# Altium footprint library STM32G441KBT3.PcbLib: 3 footprints
Each footprint in its own frame and in the unit in brackets; x right, y up, seen from the top. Pads: shape width x height; smd on the part's side, far side on the other; paste and mask are expansions set on the pad; w line width, h text height; cw(c..) or ccw(c..) is an arc to the next point about the centre after c.
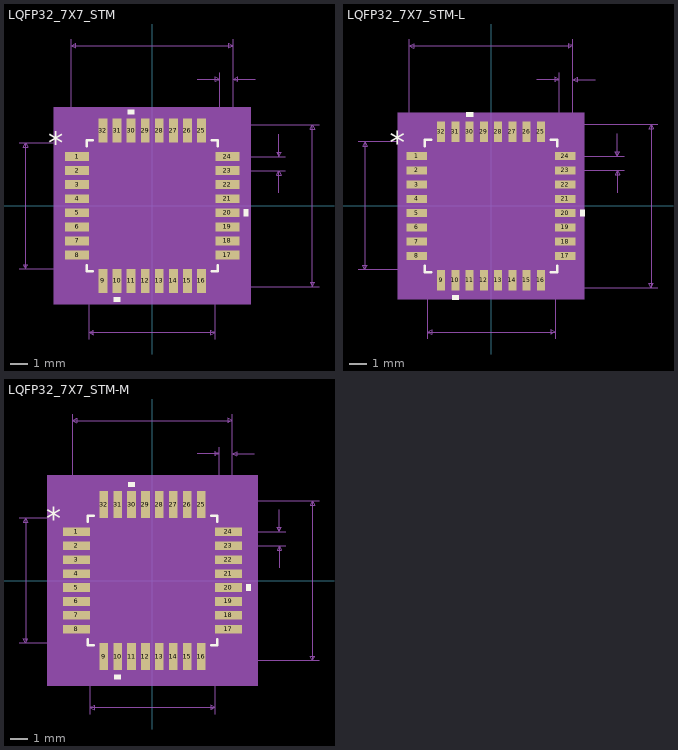
[diagram p0: the footprints below, top view; thin cyan lines are the x and y axes]

## LQFP32_7X7_STM [mm]
pads (32):
  rect 1.359x0.501 smd paste+0 mask+0: 1(-4.274,2.8) 2(-4.274,2) 3(-4.274,1.2) 4(-4.274,0.4) 5(-4.274,-0.4) 6(-4.274,-1.2) 7(-4.274,-2) 8(-4.274,-2.8) 17(4.274,-2.8) 18(4.274,-2) 19(4.274,-1.2) 20(4.274,-0.4) 21(4.274,0.4) 22(4.274,1.2) 23(4.274,2) 24(4.274,2.8)
  rect 0.501x1.359 smd paste+0 mask+0: 9(-2.8,-4.274) 10(-2,-4.274) 11(-1.2,-4.274) 12(-0.4,-4.274) 13(0.4,-4.274) 14(1.2,-4.274) 15(2,-4.274) 16(2.8,-4.274) 25(2.8,4.274) 26(2,4.274) 27(1.2,4.274) 28(0.4,4.274) 29(-0.4,4.274) 30(-1.2,4.274) 31(-2,4.274) 32(-2.8,4.274)
Top Overlay:
  region: -1.81,-5.207 -2.191,-5.207 -2.191,-5.461 -1.81,-5.461
  region: 5.207,-0.209 5.461,-0.209 5.461,-0.59 5.207,-0.59
  region: -1.01,5.207 -1.391,5.207 -1.391,5.461 -1.01,5.461
  lines w0.152: -3.721,-3.383 -3.721,-3.721 -3.383,-3.721 ; -3.721,3.383 -3.721,3.721 -3.383,3.721 ; 3.383,-3.721 3.721,-3.721 3.721,-3.383 ; 3.383,3.721 3.721,3.721 3.721,3.383
  text "*" at -5.905,2.946 h1.27
Mechanical 5:
  region: 5.588,-5.588 -5.588,-5.588 -5.588,5.588 5.588,5.588
Mechanical 7:
  lines w0.025: -7.576,-3.594 -2.8,-3.594 ; -7.576,3.594 -2.8,3.594 ; -4.597,2.8 -4.597,9.481 ; -3.594,-7.576 -3.594,-2.8 ; 2.565,7.195 3.835,7.195 ; 2.8,-4.597 9.481,-4.597 ; 2.8,4.597 9.481,4.597 ; 3.594,-7.576 3.594,-2.8 ; 3.835,2.8 3.835,7.576 ; 4.274,2 7.576,2 ; 4.274,2.8 7.576,2.8 ; 4.597,7.576 4.597,2.8 4.597,9.481 ; 5.867,7.195 4.597,7.195 ; 7.195,0.73 7.195,2 ; 7.195,4.07 7.195,2.8 ; -7.195,-3.594 -7.195,3.594 ; -7.195,-3.594 -7.322,-3.34 -7.068,-3.34 -7.195,-3.594 ; -7.195,3.594 -7.322,3.34 -7.068,3.34 -7.195,3.594 ; -4.597,9.1 4.597,9.1 ; -4.597,9.1 -4.343,9.227 -4.343,8.973 -4.597,9.1 ; -3.594,-7.195 3.594,-7.195 ; -3.594,-7.195 -3.34,-7.068 -3.34,-7.322 -3.594,-7.195 ; 3.594,-7.195 3.34,-7.068 3.34,-7.322 3.594,-7.195 ; 3.835,7.195 3.581,7.322 3.581,7.068 3.835,7.195 ; 4.597,7.195 4.851,7.322 4.851,7.068 4.597,7.195 ; 4.597,9.1 4.343,9.227 4.343,8.973 4.597,9.1 ; 7.195,2 7.068,1.746 7.322,1.746 7.195,2 ; 7.195,2.8 7.068,3.054 7.322,3.054 7.195,2.8 ; 9.1,-4.597 9.1,4.597 ; 9.1,-4.597 8.973,-4.343 9.227,-4.343 9.1,-4.597 ; 9.1,4.597 8.973,4.343 9.227,4.343 9.1,4.597
  text "Default Horiz Padstyle: RX19p72Y53p5D0T" at -12.383,-11.005 h1.27
  text "Default Vert Padstyle: RX19p72Y53p5D0T" at -12.065,-12.529 h1.27
  text "Alt 1 Padstyle: OX60Y90D30P" at -8.572,-17.101 h1.27
  text "Alt 2 Padstyle: OX90Y60D30P" at -8.572,-18.625 h1.27
  text "0.031in/0.8mm" at 7.703,2.083 h0.64
  text "0.03in/0.762mm" at 1.994,7.703 h0.64
  text "0.362in/9.195mm" at -2.381,9.608 h0.64
  text "0.283in/7.188mm" at -2.381,-8.338 h0.64
  text "0.283in/7.188mm" at -12.465,-0.318 h0.64
  text "0.362in/9.195mm" at 9.608,-0.318 h0.64
Mechanical 13:
  lines w0.025: -3.594,2.324 -2.324,3.594 ; -4.597,-3.025 -4.597,-2.575 -3.594,-2.575 -3.594,-3.025 -4.597,-3.025 ; -4.597,-2.225 -4.597,-1.775 -3.594,-1.775 -3.594,-2.225 -4.597,-2.225 ; -4.597,-1.425 -4.597,-0.975 -3.594,-0.975 -3.594,-1.425 -4.597,-1.425 ; -4.597,-0.625 -4.597,-0.175 -3.594,-0.175 -3.594,-0.625 -4.597,-0.625 ; -4.597,0.175 -4.597,0.625 -3.594,0.625 -3.594,0.175 -4.597,0.175 ; -4.597,0.975 -4.597,1.425 -3.594,1.425 -3.594,0.975 -4.597,0.975 ; -4.597,1.775 -4.597,2.225 -3.594,2.225 -3.594,1.775 -4.597,1.775 ; -4.597,2.575 -4.597,3.025 -3.594,3.025 -3.594,2.575 -4.597,2.575 ; -3.594,-3.594 3.594,-3.594 3.594,3.594 -3.594,3.594 -3.594,-3.594 ; -3.025,-4.597 -3.025,-3.594 -2.575,-3.594 -2.575,-4.597 -3.025,-4.597 ; -3.025,3.594 -2.575,3.594 -2.575,4.597 -3.025,4.597 -3.025,3.594 ; -2.225,-4.597 -2.225,-3.594 -1.775,-3.594 -1.775,-4.597 -2.225,-4.597 ; -2.225,3.594 -1.775,3.594 -1.775,4.597 -2.225,4.597 -2.225,3.594 ; -1.425,-4.597 -1.425,-3.594 -0.975,-3.594 -0.975,-4.597 -1.425,-4.597 ; -1.425,3.594 -0.975,3.594 -0.975,4.597 -1.425,4.597 -1.425,3.594 ; -0.625,-4.597 -0.625,-3.594 -0.175,-3.594 -0.175,-4.597 -0.625,-4.597 ; -0.625,3.594 -0.175,3.594 -0.175,4.597 -0.625,4.597 -0.625,3.594 ; 0.175,-4.597 0.175,-3.594 0.625,-3.594 0.625,-4.597 0.175,-4.597 ; 0.175,3.594 0.625,3.594 0.625,4.597 0.175,4.597 0.175,3.594 ; 0.975,-4.597 0.975,-3.594 1.425,-3.594 1.425,-4.597 0.975,-4.597 ; 0.975,3.594 1.425,3.594 1.425,4.597 0.975,4.597 0.975,3.594 ; 1.775,-4.597 1.775,-3.594 2.225,-3.594 2.225,-4.597 1.775,-4.597 ; 1.775,3.594 2.225,3.594 2.225,4.597 1.775,4.597 1.775,3.594 ; 2.575,-4.597 2.575,-3.594 3.025,-3.594 3.025,-4.597 2.575,-4.597 ; 2.575,3.594 3.025,3.594 3.025,4.597 2.575,4.597 2.575,3.594 ; 3.594,-3.025 3.594,-2.575 4.597,-2.575 4.597,-3.025 3.594,-3.025 ; 3.594,-2.225 3.594,-1.775 4.597,-1.775 4.597,-2.225 3.594,-2.225 ; 3.594,-1.425 3.594,-0.975 4.597,-0.975 4.597,-1.425 3.594,-1.425 ; 3.594,-0.625 3.594,-0.175 4.597,-0.175 4.597,-0.625 3.594,-0.625 ; 3.594,0.175 3.594,0.625 4.597,0.625 4.597,0.175 3.594,0.175 ; 3.594,0.975 3.594,1.425 4.597,1.425 4.597,0.975 3.594,0.975 ; 3.594,1.775 3.594,2.225 4.597,2.225 4.597,1.775 3.594,1.775 ; 3.594,2.575 3.594,3.025 4.597,3.025 4.597,2.575 3.594,2.575
  text "*" at -3.531,2.565 h1.27
Mechanical 15:
  region: -3.304,-3.848 -3.848,-3.848 -3.848,-3.304 -5.207,-3.304 -5.207,3.304 -3.848,3.304 -3.848,3.848 -3.304,3.848 -3.304,5.207 3.304,5.207 3.304,3.848 3.848,3.848 3.848,3.304 5.207,3.304 5.207,-3.304 3.848,-3.304 3.848,-3.848 3.304,-3.848 3.304,-5.207 -3.304,-5.207
  lines w0.152: -5.207,-3.304 -3.848,-3.304 -3.848,-3.848 -3.304,-3.848 -3.304,-5.207 3.304,-5.207 3.304,-3.848 3.848,-3.848 3.848,-3.304 5.207,-3.304 5.207,3.304 3.848,3.304 3.848,3.848 3.304,3.848 3.304,5.207 -3.304,5.207 -3.304,3.848 -3.848,3.848 -3.848,3.304 -5.207,3.304 -5.207,-3.304
3D body: height 0.25, standoff 0, extent 0,0 0.254,0.254

## LQFP32_7X7_STM-L [mm]
pads (32):
  rect 1.156x0.45 smd paste+0 mask+0: 1(-4.172,2.8) 2(-4.172,2) 3(-4.172,1.2) 4(-4.172,0.4) 5(-4.172,-0.4) 6(-4.172,-1.2) 7(-4.172,-2) 8(-4.172,-2.8) 17(4.172,-2.8) 18(4.172,-2) 19(4.172,-1.2) 20(4.172,-0.4) 21(4.172,0.4) 22(4.172,1.2) 23(4.172,2) 24(4.172,2.8)
  rect 0.45x1.156 smd paste+0 mask+0: 9(-2.8,-4.172) 10(-2,-4.172) 11(-1.2,-4.172) 12(-0.4,-4.172) 13(0.4,-4.172) 14(1.2,-4.172) 15(2,-4.172) 16(2.8,-4.172) 25(2.8,4.172) 26(2,4.172) 27(1.2,4.172) 28(0.4,4.172) 29(-0.4,4.172) 30(-1.2,4.172) 31(-2,4.172) 32(-2.8,4.172)
Top Overlay:
  region: -1.81,-5.004 -2.191,-5.004 -2.191,-5.258 -1.81,-5.258
  region: 5.004,-0.209 5.258,-0.209 5.258,-0.59 5.004,-0.59
  region: -1.01,5.004 -1.391,5.004 -1.391,5.258 -1.01,5.258
  lines w0.152: -3.721,-3.358 -3.721,-3.721 -3.358,-3.721 ; -3.721,3.358 -3.721,3.721 -3.358,3.721 ; 3.358,-3.721 3.721,-3.721 3.721,-3.358 ; 3.358,3.721 3.721,3.721 3.721,3.358
  text "*" at -5.702,2.946 h1.27
Mechanical 5:
  region: 5.232,-5.232 -5.232,-5.232 -5.232,5.232 5.232,5.232
Mechanical 7:
  lines w0.025: -7.474,-3.594 -2.8,-3.594 ; -7.474,3.594 -2.8,3.594 ; -4.597,2.8 -4.597,9.379 ; -3.594,-7.474 -3.594,-2.8 ; 2.565,7.093 3.835,7.093 ; 2.8,-4.597 9.379,-4.597 ; 2.8,4.597 9.379,4.597 ; 3.594,-7.474 3.594,-2.8 ; 3.835,2.8 3.835,7.474 ; 4.172,2 7.474,2 ; 4.172,2.8 7.474,2.8 ; 4.597,7.474 4.597,2.8 4.597,9.379 ; 5.867,7.093 4.597,7.093 ; 7.093,0.73 7.093,2 ; 7.093,4.07 7.093,2.8 ; -7.093,-3.594 -7.093,3.594 ; -7.093,-3.594 -7.22,-3.34 -6.966,-3.34 -7.093,-3.594 ; -7.093,3.594 -7.22,3.34 -6.966,3.34 -7.093,3.594 ; -4.597,8.998 4.597,8.998 ; -4.597,8.998 -4.343,9.125 -4.343,8.871 -4.597,8.998 ; -3.594,-7.093 3.594,-7.093 ; -3.594,-7.093 -3.34,-6.966 -3.34,-7.22 -3.594,-7.093 ; 3.594,-7.093 3.34,-6.966 3.34,-7.22 3.594,-7.093 ; 3.835,7.093 3.581,7.22 3.581,6.966 3.835,7.093 ; 4.597,7.093 4.851,7.22 4.851,6.966 4.597,7.093 ; 4.597,8.998 4.343,9.125 4.343,8.871 4.597,8.998 ; 7.093,2 6.966,1.746 7.22,1.746 7.093,2 ; 7.093,2.8 6.966,3.054 7.22,3.054 7.093,2.8 ; 8.998,-4.597 8.998,4.597 ; 8.998,-4.597 8.871,-4.343 9.125,-4.343 8.998,-4.597 ; 8.998,4.597 8.871,4.343 9.125,4.343 8.998,4.597
  text "Default Horiz Padstyle: RX17p72Y45p5D0T" at -12.383,-10.903 h1.27
  text "Default Vert Padstyle: RX17p72Y45p5D0T" at -12.065,-12.427 h1.27
  text "Alt 1 Padstyle: OX60Y90D30P" at -8.572,-16.999 h1.27
  text "Alt 2 Padstyle: OX90Y60D30P" at -8.572,-18.523 h1.27
  text "0.031in/0.8mm" at 7.601,2.083 h0.64
  text "0.03in/0.762mm" at 1.994,7.601 h0.64
  text "0.362in/9.195mm" at -2.381,9.506 h0.64
  text "0.283in/7.188mm" at -2.381,-8.236 h0.64
  text "0.283in/7.188mm" at -12.363,-0.318 h0.64
  text "0.362in/9.195mm" at 9.506,-0.318 h0.64
Mechanical 13:
  lines w0.025: -3.594,2.324 -2.324,3.594 ; -3.594,-3.594 3.594,-3.594 ; -3.594,-3.594 -3.594,3.594 ; -3.594,-3.594 -3.594,-3.594 ; -3.594,3.594 3.594,3.594 ; -3.594,3.594 -3.594,3.594 ; 3.594,-3.594 3.594,-3.594 ; 3.594,-3.594 3.594,3.594 ; 3.594,3.594 3.594,3.594 ; -4.597,-3.025 -4.597,-2.575 -3.594,-2.575 -3.594,-3.025 -4.597,-3.025 ; -4.597,-2.225 -4.597,-1.775 -3.594,-1.775 -3.594,-2.225 -4.597,-2.225 ; -4.597,-1.425 -4.597,-0.975 -3.594,-0.975 -3.594,-1.425 -4.597,-1.425 ; -4.597,-0.625 -4.597,-0.175 -3.594,-0.175 -3.594,-0.625 -4.597,-0.625 ; -4.597,0.175 -4.597,0.625 -3.594,0.625 -3.594,0.175 -4.597,0.175 ; -4.597,0.975 -4.597,1.425 -3.594,1.425 -3.594,0.975 -4.597,0.975 ; -4.597,1.775 -4.597,2.225 -3.594,2.225 -3.594,1.775 -4.597,1.775 ; -4.597,2.575 -4.597,3.025 -3.594,3.025 -3.594,2.575 -4.597,2.575 ; -3.025,-4.597 -3.025,-3.594 -2.575,-3.594 -2.575,-4.597 -3.025,-4.597 ; -3.025,3.594 -2.575,3.594 -2.575,4.597 -3.025,4.597 -3.025,3.594 ; -2.225,-4.597 -2.225,-3.594 -1.775,-3.594 -1.775,-4.597 -2.225,-4.597 ; -2.225,3.594 -1.775,3.594 -1.775,4.597 -2.225,4.597 -2.225,3.594 ; -1.425,-4.597 -1.425,-3.594 -0.975,-3.594 -0.975,-4.597 -1.425,-4.597 ; -1.425,3.594 -0.975,3.594 -0.975,4.597 -1.425,4.597 -1.425,3.594 ; -0.625,-4.597 -0.625,-3.594 -0.175,-3.594 -0.175,-4.597 -0.625,-4.597 ; -0.625,3.594 -0.175,3.594 -0.175,4.597 -0.625,4.597 -0.625,3.594 ; 0.175,-4.597 0.175,-3.594 0.625,-3.594 0.625,-4.597 0.175,-4.597 ; 0.175,3.594 0.625,3.594 0.625,4.597 0.175,4.597 0.175,3.594 ; 0.975,-4.597 0.975,-3.594 1.425,-3.594 1.425,-4.597 0.975,-4.597 ; 0.975,3.594 1.425,3.594 1.425,4.597 0.975,4.597 0.975,3.594 ; 1.775,-4.597 1.775,-3.594 2.225,-3.594 2.225,-4.597 1.775,-4.597 ; 1.775,3.594 2.225,3.594 2.225,4.597 1.775,4.597 1.775,3.594 ; 2.575,-4.597 2.575,-3.594 3.025,-3.594 3.025,-4.597 2.575,-4.597 ; 2.575,3.594 3.025,3.594 3.025,4.597 2.575,4.597 2.575,3.594 ; 3.594,-3.025 3.594,-2.575 4.597,-2.575 4.597,-3.025 3.594,-3.025 ; 3.594,-2.225 3.594,-1.775 4.597,-1.775 4.597,-2.225 3.594,-2.225 ; 3.594,-1.425 3.594,-0.975 4.597,-0.975 4.597,-1.425 3.594,-1.425 ; 3.594,-0.625 3.594,-0.175 4.597,-0.175 4.597,-0.625 3.594,-0.625 ; 3.594,0.175 3.594,0.625 4.597,0.625 4.597,0.175 3.594,0.175 ; 3.594,0.975 3.594,1.425 4.597,1.425 4.597,0.975 3.594,0.975 ; 3.594,1.775 3.594,2.225 4.597,2.225 4.597,1.775 3.594,1.775 ; 3.594,2.575 3.594,3.025 4.597,3.025 4.597,2.575 3.594,2.575
  text "*" at -3.531,2.565 h1.27
Mechanical 15:
  region: -3.127,-3.696 -3.696,-3.696 -3.696,-3.127 -4.851,-3.127 -4.851,3.127 -3.696,3.127 -3.696,3.696 -3.127,3.696 -3.127,4.851 3.127,4.851 3.127,3.696 3.696,3.696 3.696,3.127 4.851,3.127 4.851,-3.127 3.696,-3.127 3.696,-3.696 3.127,-3.696 3.127,-4.851 -3.127,-4.851
  lines w0.152: -4.851,-3.127 -3.696,-3.127 -3.696,-3.696 -3.127,-3.696 -3.127,-4.851 3.127,-4.851 3.127,-3.696 3.696,-3.696 3.696,-3.127 4.851,-3.127 4.851,3.127 3.696,3.127 3.696,3.696 3.127,3.696 3.127,4.851 -3.127,4.851 -3.127,3.696 -3.696,3.696 -3.696,3.127 -4.851,3.127 -4.851,-3.127
3D body: height 0.25, standoff 0, extent 0,0 0.254,0.254

## LQFP32_7X7_STM-M [mm]
pads (32):
  rect 1.562x0.501 smd paste+0 mask+0: 1(-4.375,2.8) 2(-4.375,2) 3(-4.375,1.2) 4(-4.375,0.4) 5(-4.375,-0.4) 6(-4.375,-1.2) 7(-4.375,-2) 8(-4.375,-2.8) 17(4.375,-2.8) 18(4.375,-2) 19(4.375,-1.2) 20(4.375,-0.4) 21(4.375,0.4) 22(4.375,1.2) 23(4.375,2) 24(4.375,2.8)
  rect 0.501x1.562 smd paste+0 mask+0: 9(-2.8,-4.375) 10(-2,-4.375) 11(-1.2,-4.375) 12(-0.4,-4.375) 13(0.4,-4.375) 14(1.2,-4.375) 15(2,-4.375) 16(2.8,-4.375) 25(2.8,4.375) 26(2,4.375) 27(1.2,4.375) 28(0.4,4.375) 29(-0.4,4.375) 30(-1.2,4.375) 31(-2,4.375) 32(-2.8,4.375)
Top Overlay:
  region: -1.81,-5.41 -2.191,-5.41 -2.191,-5.664 -1.81,-5.664
  region: 5.41,-0.209 5.664,-0.209 5.664,-0.59 5.41,-0.59
  region: -1.01,5.41 -1.391,5.41 -1.391,5.664 -1.01,5.664
  lines w0.152: -3.721,-3.383 -3.721,-3.721 -3.383,-3.721 ; -3.721,3.383 -3.721,3.721 -3.383,3.721 ; 3.383,-3.721 3.721,-3.721 3.721,-3.383 ; 3.383,3.721 3.721,3.721 3.721,3.383
  text "*" at -6.109,2.946 h1.27
Mechanical 5:
  region: 6.045,-6.045 -6.045,-6.045 -6.045,6.045 6.045,6.045
Mechanical 7:
  lines w0.025: -7.677,-3.594 -2.8,-3.594 ; -7.677,3.594 -2.8,3.594 ; -4.597,2.8 -4.597,9.582 ; -3.594,-7.677 -3.594,-2.8 ; 2.565,7.296 3.835,7.296 ; 2.8,-4.597 9.582,-4.597 ; 2.8,4.597 9.582,4.597 ; 3.594,-7.677 3.594,-2.8 ; 3.835,2.8 3.835,7.677 ; 4.375,2 7.677,2 ; 4.375,2.8 7.677,2.8 ; 4.597,7.677 4.597,2.8 4.597,9.582 ; 5.867,7.296 4.597,7.296 ; 7.296,0.73 7.296,2 ; 7.296,4.07 7.296,2.8 ; -7.296,-3.594 -7.296,3.594 ; -7.296,-3.594 -7.423,-3.34 -7.169,-3.34 -7.296,-3.594 ; -7.296,3.594 -7.423,3.34 -7.169,3.34 -7.296,3.594 ; -4.597,9.201 4.597,9.201 ; -4.597,9.201 -4.343,9.328 -4.343,9.074 -4.597,9.201 ; -3.594,-7.296 3.594,-7.296 ; -3.594,-7.296 -3.34,-7.169 -3.34,-7.423 -3.594,-7.296 ; 3.594,-7.296 3.34,-7.169 3.34,-7.423 3.594,-7.296 ; 3.835,7.296 3.581,7.423 3.581,7.169 3.835,7.296 ; 4.597,7.296 4.851,7.423 4.851,7.169 4.597,7.296 ; 4.597,9.201 4.343,9.328 4.343,9.074 4.597,9.201 ; 7.296,2 7.169,1.746 7.423,1.746 7.296,2 ; 7.296,2.8 7.169,3.054 7.423,3.054 7.296,2.8 ; 9.201,-4.597 9.201,4.597 ; 9.201,-4.597 9.074,-4.343 9.328,-4.343 9.201,-4.597 ; 9.201,4.597 9.074,4.343 9.328,4.343 9.201,4.597
  text "Default Horiz Padstyle: RX19p72Y61p5D0T" at -12.383,-11.106 h1.27
  text "Default Vert Padstyle: RX19p72Y61p5D0T" at -12.065,-12.63 h1.27
  text "Alt 1 Padstyle: OX60Y90D30P" at -8.572,-17.202 h1.27
  text "Alt 2 Padstyle: OX90Y60D30P" at -8.572,-18.726 h1.27
  text "0.031in/0.8mm" at 7.804,2.083 h0.64
  text "0.03in/0.762mm" at 1.994,7.804 h0.64
  text "0.362in/9.195mm" at -2.381,9.709 h0.64
  text "0.283in/7.188mm" at -2.381,-8.439 h0.64
  text "0.283in/7.188mm" at -12.567,-0.318 h0.64
  text "0.362in/9.195mm" at 9.709,-0.318 h0.64
Mechanical 13:
  lines w0.025: -3.594,2.324 -2.324,3.594 ; -3.594,-3.594 3.594,-3.594 ; -3.594,-3.594 -3.594,3.594 ; -3.594,-3.594 -3.594,-3.594 ; -3.594,3.594 3.594,3.594 ; -3.594,3.594 -3.594,3.594 ; 3.594,-3.594 3.594,-3.594 ; 3.594,-3.594 3.594,3.594 ; 3.594,3.594 3.594,3.594 ; -4.597,-3.025 -4.597,-2.575 -3.594,-2.575 -3.594,-3.025 -4.597,-3.025 ; -4.597,-2.225 -4.597,-1.775 -3.594,-1.775 -3.594,-2.225 -4.597,-2.225 ; -4.597,-1.425 -4.597,-0.975 -3.594,-0.975 -3.594,-1.425 -4.597,-1.425 ; -4.597,-0.625 -4.597,-0.175 -3.594,-0.175 -3.594,-0.625 -4.597,-0.625 ; -4.597,0.175 -4.597,0.625 -3.594,0.625 -3.594,0.175 -4.597,0.175 ; -4.597,0.975 -4.597,1.425 -3.594,1.425 -3.594,0.975 -4.597,0.975 ; -4.597,1.775 -4.597,2.225 -3.594,2.225 -3.594,1.775 -4.597,1.775 ; -4.597,2.575 -4.597,3.025 -3.594,3.025 -3.594,2.575 -4.597,2.575 ; -3.025,-4.597 -3.025,-3.594 -2.575,-3.594 -2.575,-4.597 -3.025,-4.597 ; -3.025,3.594 -2.575,3.594 -2.575,4.597 -3.025,4.597 -3.025,3.594 ; -2.225,-4.597 -2.225,-3.594 -1.775,-3.594 -1.775,-4.597 -2.225,-4.597 ; -2.225,3.594 -1.775,3.594 -1.775,4.597 -2.225,4.597 -2.225,3.594 ; -1.425,-4.597 -1.425,-3.594 -0.975,-3.594 -0.975,-4.597 -1.425,-4.597 ; -1.425,3.594 -0.975,3.594 -0.975,4.597 -1.425,4.597 -1.425,3.594 ; -0.625,-4.597 -0.625,-3.594 -0.175,-3.594 -0.175,-4.597 -0.625,-4.597 ; -0.625,3.594 -0.175,3.594 -0.175,4.597 -0.625,4.597 -0.625,3.594 ; 0.175,-4.597 0.175,-3.594 0.625,-3.594 0.625,-4.597 0.175,-4.597 ; 0.175,3.594 0.625,3.594 0.625,4.597 0.175,4.597 0.175,3.594 ; 0.975,-4.597 0.975,-3.594 1.425,-3.594 1.425,-4.597 0.975,-4.597 ; 0.975,3.594 1.425,3.594 1.425,4.597 0.975,4.597 0.975,3.594 ; 1.775,-4.597 1.775,-3.594 2.225,-3.594 2.225,-4.597 1.775,-4.597 ; 1.775,3.594 2.225,3.594 2.225,4.597 1.775,4.597 1.775,3.594 ; 2.575,-4.597 2.575,-3.594 3.025,-3.594 3.025,-4.597 2.575,-4.597 ; 2.575,3.594 3.025,3.594 3.025,4.597 2.575,4.597 2.575,3.594 ; 3.594,-3.025 3.594,-2.575 4.597,-2.575 4.597,-3.025 3.594,-3.025 ; 3.594,-2.225 3.594,-1.775 4.597,-1.775 4.597,-2.225 3.594,-2.225 ; 3.594,-1.425 3.594,-0.975 4.597,-0.975 4.597,-1.425 3.594,-1.425 ; 3.594,-0.625 3.594,-0.175 4.597,-0.175 4.597,-0.625 3.594,-0.625 ; 3.594,0.175 3.594,0.625 4.597,0.625 4.597,0.175 3.594,0.175 ; 3.594,0.975 3.594,1.425 4.597,1.425 4.597,0.975 3.594,0.975 ; 3.594,1.775 3.594,2.225 4.597,2.225 4.597,1.775 3.594,1.775 ; 3.594,2.575 3.594,3.025 4.597,3.025 4.597,2.575 3.594,2.575
  text "*" at -3.531,2.565 h1.27
Mechanical 15:
  region: -3.558,-4.102 -4.102,-4.102 -4.102,-3.558 -5.664,-3.558 -5.664,3.558 -4.102,3.558 -4.102,4.102 -3.558,4.102 -3.558,5.664 3.558,5.664 3.558,4.102 4.102,4.102 4.102,3.558 5.664,3.558 5.664,-3.558 4.102,-3.558 4.102,-4.102 3.558,-4.102 3.558,-5.664 -3.558,-5.664
  lines w0.152: -5.664,-3.558 -4.102,-3.558 -4.102,-4.102 -3.558,-4.102 -3.558,-5.664 3.558,-5.664 3.558,-4.102 4.102,-4.102 4.102,-3.558 5.664,-3.558 5.664,3.558 4.102,3.558 4.102,4.102 3.558,4.102 3.558,5.664 -3.558,5.664 -3.558,4.102 -4.102,4.102 -4.102,3.558 -5.664,3.558 -5.664,-3.558
3D body: height 0.25, standoff 0, extent 0,0 0.254,0.254